# Altium footprint library 常用小元件封装库.PcbLib: 50 footprints (part 2 of 4)
Each footprint in its own frame and in the unit in brackets; x right, y up, seen from the top. Pads: shape width x height; smd on the part's side, far side on the other; paste and mask are expansions set on the pad; w line width, h text height; cw(c..) or ccw(c..) is an arc to the next point about the centre after c.
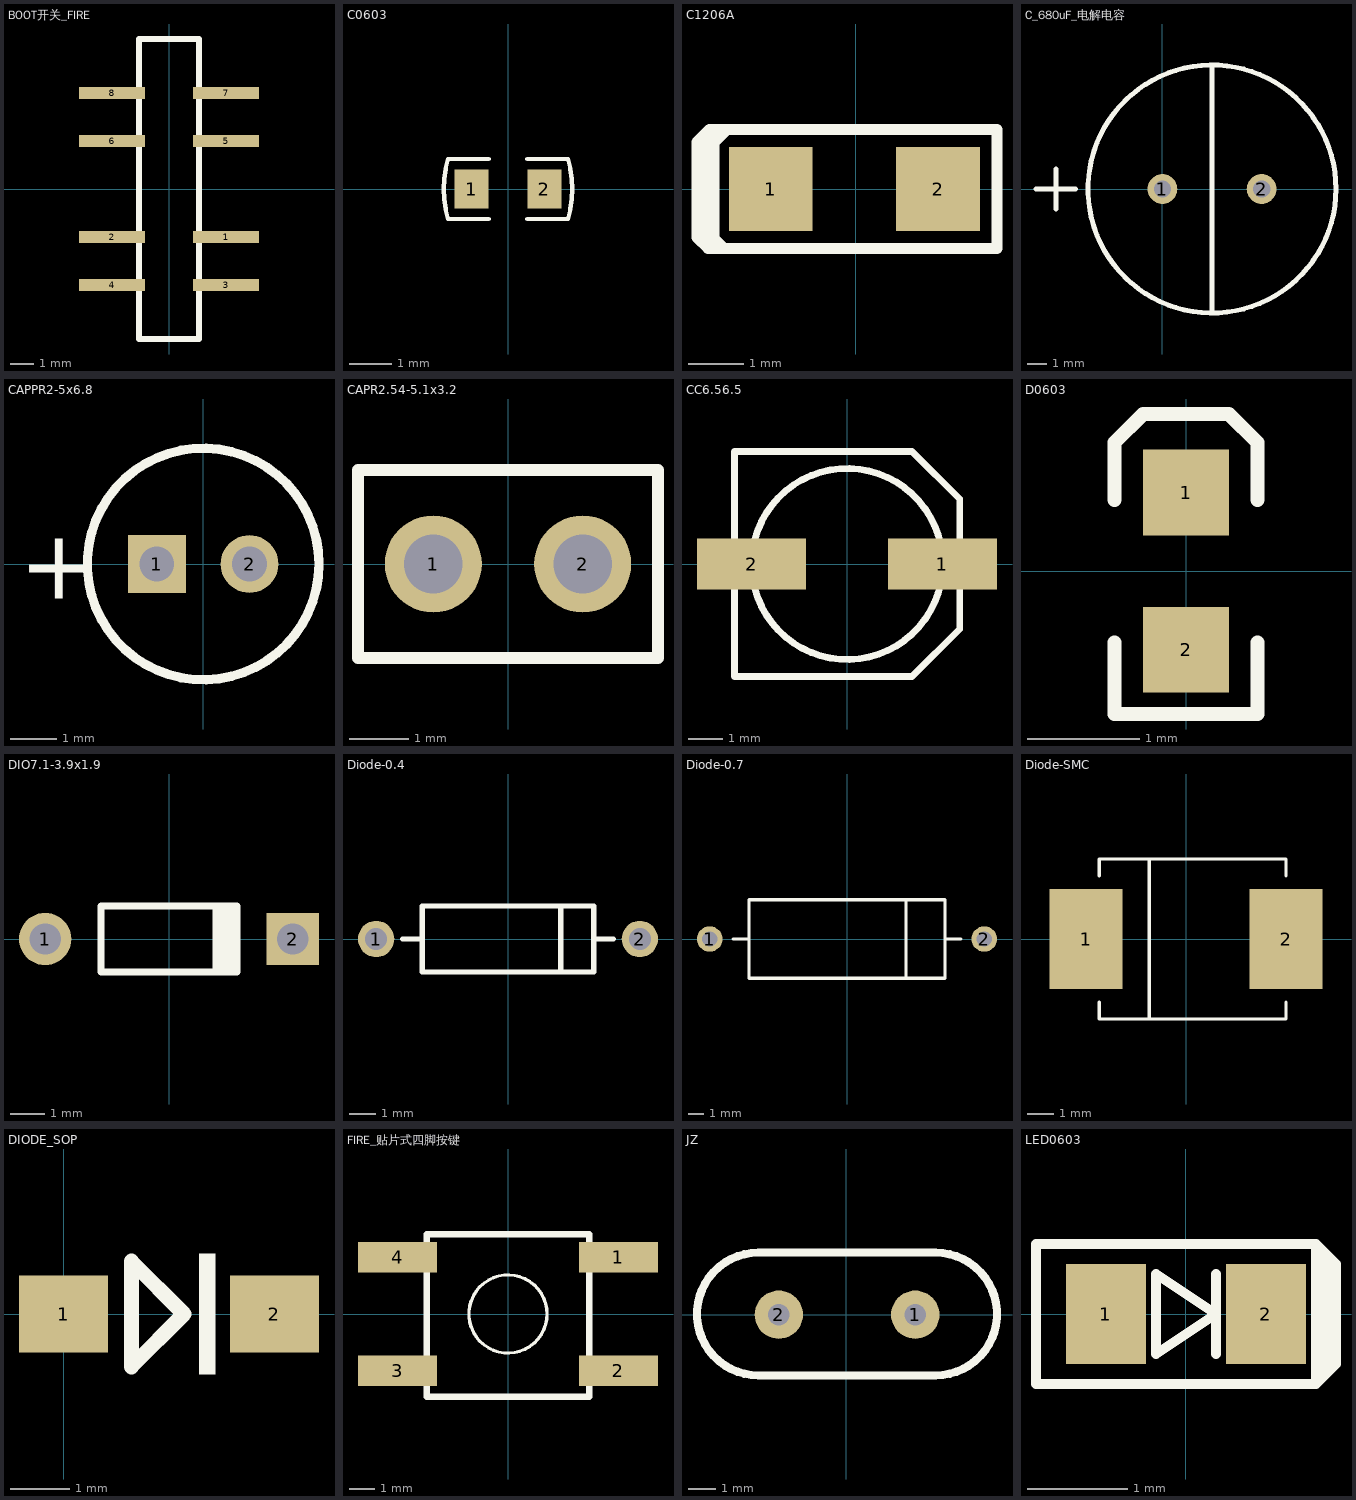
[diagram p1: the footprints below, top view; thin cyan lines are the x and y axes]

## BOOT开关_FIRE [mil]
pads (8):
  rect 110.24x20 smd: 1(95,-80) 2(-95,-80) 3(95,-160) 4(-95,-160) 5(95,80) 6(-95,80) 7(95,160) 8(-95,160)
Top Overlay:
  lines w10: -50,-250 50,-250 50,250 -50,250 -50,-250

## C0603 [mm]
pads (2):
  rect 0.8x0.9 smd: 1(-0.85,0) 2(0.85,0)
Top Overlay:
  lines w0.1: -0.45,-0.7 -1.4,-0.7 cw(c1,0) -1.4,0.7 -0.45,0.7 ; 0.45,-0.7 1.4,-0.7 ccw(c-1,0) 1.4,0.7 0.45,0.7

## C1206A [mm] "10UF 贴片钽电容"
pads (2):
  rect 1.5x1.5 smd: 1(-1.524,0) 2(1.476,0)
Top Overlay:
  lines w0.203: -2.667,-0.889 -2.667,0.889 ; -2.54,-0.635 -2.54,-0.888 -2.361,-1.067 -2.64,-1.067 -2.843,-0.864 -2.843,0.838 -2.615,1.067 -2.54,1.067 ; -2.54,0.533 -2.54,0.837 -2.31,1.067 ; -2.54,1.067 -0.61,1.067 0.627,1.067 2.532,1.067 2.532,1.041 2.532,-1.067 0.652,-1.067 -0.61,-1.067 -2.515,-1.067 -2.54,-1.041 -2.54,1.067
3D body: height 0.95, standoff 0, extent -1.626,-0.813 1.574,0.787

## C_680uF_电解电容 [mil]
pads (2):
  round 60 hole 35: 1(0,0) 2(200,0)
Top Overlay:
  circle w10: c100,0 r250
  lines w10: -255,0 -175,0 ; -215,-40 -215,40 ; 100,-250 100,250

## CAPPR2-5x6.8 [mm] "Capacitor, Ceramic, Thru-Hole, Dipped Radial; Body 5.1 x 3.2 mm (WxT) Pin Spacing 2.54 mm (typ)"
pads (2):
  rect 1.25x1.25 hole 0.75: 1(-1,0)
  round 1.25 hole 0.75: 2(1,0)
Top Overlay:
  circle w0.2: c0,0 r2.5
  text "+" at -3.975,-0.75 h1.5

## CAPR2.54-5.1x3.2 [mm]
pads (2):
  round 1.65 hole 1: 1(-1.27,0) 2(1.27,0)
Top Overlay:
  lines w0.2: -2.55,-1.6 -2.55,1.6 2.55,1.6 2.55,-1.6 -2.55,-1.6

## CC6.56.5 [mm] "220uf 贴片铝电解电容封装"
pads (2):
  rect 3.2x1.5 smd: 1(2.794,0) 2(-2.8,0)
Top Overlay:
  circle w0.2: c0,0 r2.8
  lines w0.2: -3.302,-3.302 -3.302,3.302 1.905,3.302 3.302,1.905 3.302,-1.905 1.905,-3.302 -3.302,-3.302

## D0603 [mil]
pads (2):
  rect 30x30 smd: 1(0,27.5) 2(0,-27.5)
Top Overlay:
  lines w5: -25,-25 -25,-50 25,-50 25,-25 ; -25,25 -25,45 -15,55 15,55 25,45 25,25

## DIO7.1-3.9x1.9 [mm] "Axial; Body 3.8 x 1.9 mm (LxDia. max), Lead Dia. 0.53 mm (max)"
height 1.9
pads (2):
  round 1.5 hole 0.9: 1(-3.55,0)
  rect 1.5x1.5 hole 0.9: 2(3.55,0)
Top Overlay:
  rectangle: 1.25,-0.95 2.05,0.95
  lines w0.2: 1.95,-0.95 -1.95,-0.95 -1.95,0.95 1.95,0.95

## Diode-0.4 [mm]
pads (2):
  round 1.4 hole 0.85: 1(-5.08,0) 2(5.08,0)
Top Overlay:
  lines w0.2: -4.064,0 -3.302,0 ; 2.032,-1.27 2.032,1.27 ; 3.302,0 4.064,0 ; -3.302,-1.27 3.302,-1.27 3.302,1.27 -3.302,1.27 -3.302,-1.27

## Diode-0.7 [mm]
pads (2):
  round 1.65 hole 1: 1(-8.89,0) 2(8.89,0)
Top Overlay:
  lines w0.2: -7.366,0 -6.35,0 ; 3.81,-2.54 3.81,2.54 ; 6.35,0 7.366,0 ; -6.35,-2.54 6.35,-2.54 6.35,2.54 -6.35,2.54 -6.35,-2.54

## Diode-SMC [mil]
pads (2):
  rect 110x150 smd: 1(-150,0) 2(150,0)
Top Overlay:
  lines w5: -130,-95 -130,-120 150,-120 150,-95 ; -130,95 -130,120 150,120 150,95 ; -55,-120 -55,120
Mechanical 1:
  lines w1: -130,-120 150,-120 ; -130,120 150,120

## DIODE_SOP [mm]
pads (2):
  rect 1.5x1.3 smd: 1(0,0) 2(3.556,0)
Top Overlay:
  rectangle: 2.286,-1.016 2.559,1.016
  lines w0.254: 1.143,-0.889 2.032,0 1.143,0.889 1.143,-0.889

## FIRE_贴片式四脚按键 [mil]
pads (4):
  rect 122.05x47.24 smd: 1(170,87.5) 2(170,-87.5) 3(-170,-87.5) 4(-170,87.5)
Top Overlay:
  circle w5: c0,0 r60.21
  lines w10: -125,-127.5 125,-127.5 125,122.5 -125,122.5 -125,-127.5

## JZ [mil]
pads (2):
  round 70 hole 31.5: 1(100,0) 2(-97,0)
Top Overlay:
  lines w11.81: -126.53,-87.58 cw(c-126.53,1) -126.53,89.58 129.38,89.58 cw(c129.38,1) 129.38,-87.58 -126.53,-87.58

## LED0603 [mm]
pads (2):
  rect 0.8x1 smd: 1(-0.8,0) 2(0.8,0)
Top Overlay:
  lines w0.1: 0.3,-0.4 0.3,0.4 ; 1.4,-0.6 1.4,0.6 ; 1.5,-0.4 1.5,0.4 ; 1.3,-0.7 1.5,-0.5 1.5,0.5 1.3,0.7 ; 1.3,-0.7 -1.5,-0.7 -1.5,0.7 1.3,0.7 ; 1.3,-0.7 1.3,0.7 ; -0.3,-0.4 -0.3,0.4 0.3,0 -0.3,-0.4